# Altium schematic symbol library LDOs.SchLib: 7 symbols
Pins are listed as number, name and electrical type; pins without a type are passive.

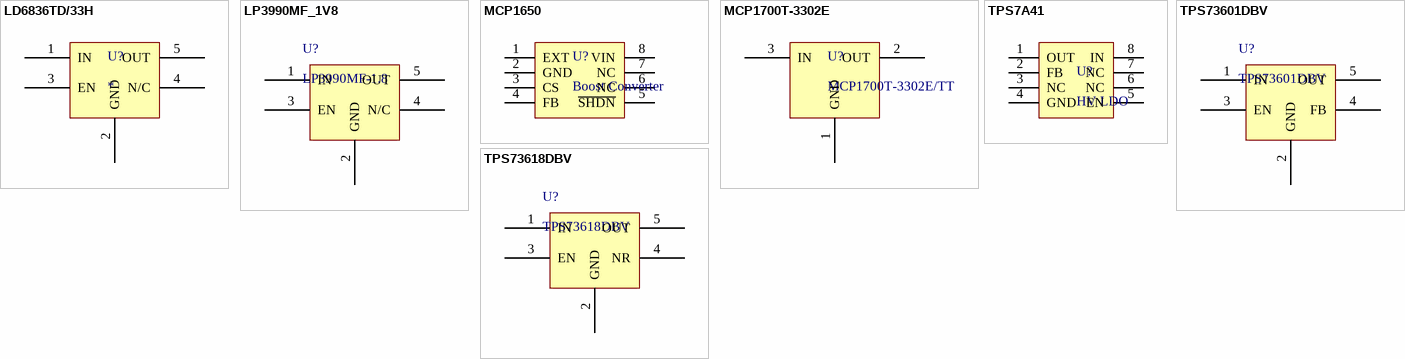
[diagram p0: symbols LD6836TD/33H to TPS73618DBV]

## LD6836TD/33H
designator U?
NXP, LDO 300mA 3.3V LDO regulator
footprint SOT23-5AN (SOT23, 5-Leads, Body 2.9x1.6mm, Pitch 0.95mm, Lead Span 2.8mm, IPC Medium Density)
pins: 1 IN, 2 GND, 3 EN, 4 N/C, 5 OUT

## LP3990MF_1V8
designator U?, comment LP3990MF-1.8
T.I., 150mA 1.8V LDO regulator in SOT23-5 package; Manufacturer: Texas Instruments; PartNumber: LP3990MF-1.8; ComponentLink1Description: Datasheet; ComponentLink1URL: http://sv-code.cm.local/svn/datasheets/TI/power/tps73501/tps73501.pdf
footprint SOT23-5AL (SOT23, 5-Leads, Body 2.9x1.6mm, Pitch 0.95mm, Lead Span 2.8mm, IPC High Density)
footprint SOT23-5AN (SOT23, 5-Leads, Body 2.9x1.6mm, Pitch 0.95mm, Lead Span 2.8mm, IPC Medium Density)
pins: 1 IN, 2 GND, 3 EN, 4 N/C, 5 OUT

## MCP1650
designator U?, comment Boost Converter
Microchip boost converter
footprint MSOP8_N_DGN (TSOP, 8-Leads, Body 3.00x3.00mm, Pitch 0.65mm, IPC Medium Density)
pins: 1 EXT, 2 GND, 3 CS, 4 FB, 5 ~{SHDN}, 6 NC, 7 NC, 8 VIN

## MCP1700T-3302E
designator U?, comment MCP1700T-3302E/TT
Microchip 3.3V LDO, 250mA; PartNumber: MCP1700T-3302E/TT; Supplier 1: Farnell; Supplier Part Number 1: 1296592
footprint SOT23-3N (SOT23, 3-Leads, Body 2.90x2.65mm, Pitch 0.95mm, IPC Medium Density)
pins: 1 GND, 2 OUT, 3 IN

## TPS7A41
designator U?, comment HV LDO
TI High Voltage Adjustable LDO, 50mA
footprint MSOP8_N_DGN (TSOP, 8-Leads, Body 3.00x3.00mm, Pitch 0.65mm, IPC Medium Density)
pins: 1 OUT, 2 FB, 3 NC, 4 GND, 5 EN, 6 NC, 7 NC, 8 IN

## TPS73601DBV
designator U?
T.I., 300mA Adj. LDO regulator in SOT23-5 package; Manufacturer: Texas Instruments; PartNumber: TPS73601DBV; ComponentLink1Description: Datasheet; ComponentLink1URL: http://sv-code.cm.local/svn/datasheets/TI/power/tps73601/tps73601.pdf
footprint SOT23-5AL (SOT23, 5-Leads, Body 2.9x1.6mm, Pitch 0.95mm, Lead Span 2.8mm, IPC High Density)
footprint SOT23-5AN (SOT23, 5-Leads, Body 2.9x1.6mm, Pitch 0.95mm, Lead Span 2.8mm, IPC Medium Density)
pins: 1 IN, 2 GND, 3 EN, 4 FB, 5 OUT

## TPS73618DBV
designator U?
T.I., 300mA 1.8V LDO regulator in SOT23-5 package; Manufacturer: Texas Instruments; PartNumber: TPS73618DBV
footprint SOT23-5AL (SOT23, 5-Leads, Body 2.9x1.6mm, Pitch 0.95mm, Lead Span 2.8mm, IPC High Density)
footprint SOT23-5AN (SOT23, 5-Leads, Body 2.9x1.6mm, Pitch 0.95mm, Lead Span 2.8mm, IPC Medium Density)
pins: 1 IN, 2 GND, 3 EN, 4 NR, 5 OUT